# EAGLE library part MSL0402RGBU1 (library MSL0402RGBU1)
Designed by AKstudios github.com/akstudios
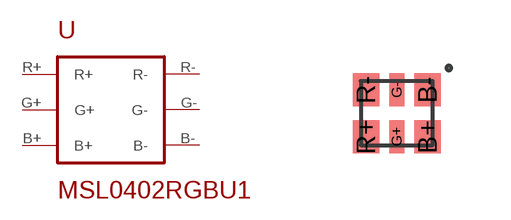
[diagram p0: symbol with the pads of SMD-6; footprint SMD-6]

Designator prefix -

## MSL0402RGBU1  [SMD-6]
B+  B+
B-  B-
G+  G+
G-  G-
R+  R+
R-  R-

## Footprint SMD-6 (pad centres in mm)
smd 0.67 x 0.83: B+ 0.77,-0.585; B- 0.77,0.585; R+ -0.77,-0.585; R- -0.77,0.585
smd 0.37 x 0.83: G+ 0,-0.585; G- 0,0.585